# Altium footprint library DS1073-01-2x12-MR.PcbLib: 1 footprints
Each footprint in its own frame and in the unit in brackets; x right, y up, seen from the top. Pads: shape width x height; smd on the part's side, far side on the other; paste and mask are expansions set on the pad; w line width, h text height; cw(c..) or ccw(c..) is an arc to the next point about the centre after c.
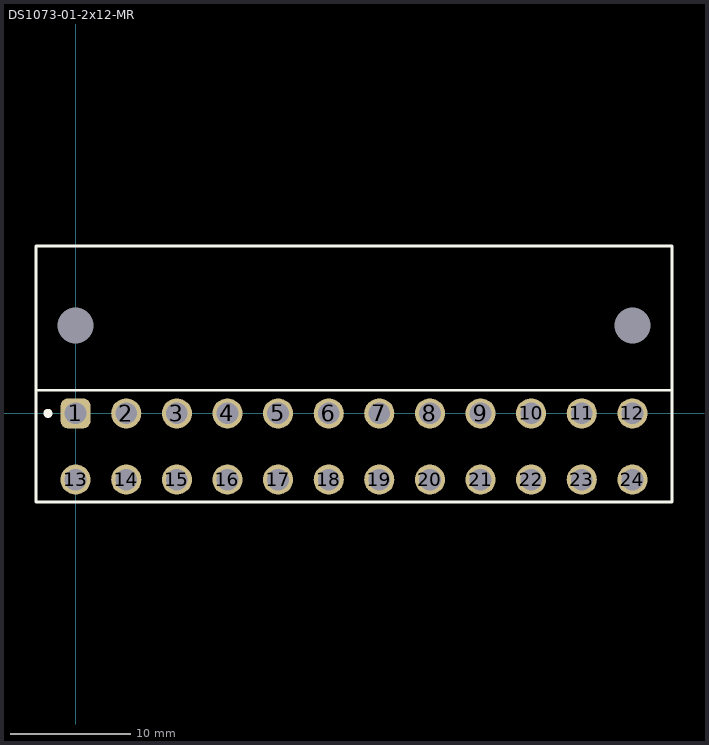
[diagram p0: the footprint, top view; thin cyan lines are the x and y axes]

## DS1073-01-2x12-MR [mm]
pads (26):
  rrect50% 2.5x2.5 hole 1.8: 1(0,0)
  round 2.5 hole 1.8: 2(4.2,0) 3(8.4,0) 4(12.6,0) 5(16.8,0) 6(21,0) 7(25.2,0) 8(29.4,0) 9(33.6,0) 10(37.8,0) 11(42,0) 12(46.2,0) 13(0,-5.5) 14(4.2,-5.5) 15(8.4,-5.5) 16(12.6,-5.5) 17(16.8,-5.5) 18(21,-5.5) 19(25.2,-5.5) 20(29.4,-5.5) 21(33.6,-5.5) 22(37.8,-5.5) 23(42,-5.5) 24(46.2,-5.5)
  round 0 hole 3: ""(0,7.3) ""(46.2,7.3)
Top Overlay:
  circle w0.5: c-2.3,0 r0.125
  lines w0.2: -3.3,1.905 49.5,1.905
  lines w0.254: -3.3,-7.366 49.5,-7.366 49.5,1.905 49.5,13.9 3.305,13.9 -3.3,13.9 -3.3,2.505 -3.3,-7.366
3D body "KLS1-4.20-2x12-R.step": height 11.4, standoff -3.6, extent -3,-6.035 49,13.9